# Altium schematic symbol library TPS65023.SchLib: 1 symbol
Pins are listed as number, name and electrical type; pins without a type are passive.

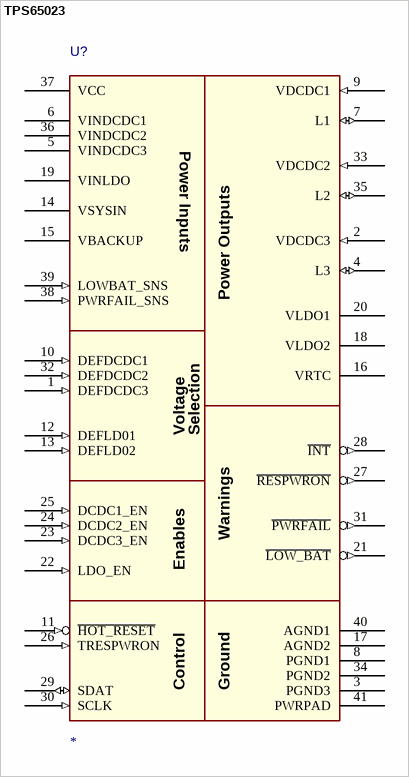
[diagram p0: symbol TPS65023]

## TPS65023
designator U?
pins: 1 DEFDCDC3 (in), 2 VDCDC3 (in), 3 PGND3 (power), 4 L3 (io), 5 VINDCDC3 (power), 6 VINDCDC1 (power), 7 L1 (io), 8 PGND1 (power), 9 VDCDC1 (in), 10 DEFDCDC1 (in), 11 ~{HOT_RESET} (in), 12 DEFLD01 (in), 13 DEFLD02 (in), 14 VSYSIN (power), 15 VBACKUP (power), 16 VRTC (power), 17 AGND2 (power), 18 VLDO2 (power), 19 VINLDO (power), 20 VLDO1 (power), 21 ~{LOW_BAT} (out), 22 LDO_EN (in), 23 DCDC3_EN (in), 24 DCDC2_EN (in), 25 DCDC1_EN (in), 26 TRESPWRON (in), 27 ~{RESPWRON} (out), 28 ~{INT} (out), 29 SDAT (io), 30 SCLK (in), 31 ~{PWRFAIL} (out), 32 DEFDCDC2 (in), 33 VDCDC2 (in), 34 PGND2 (power), 35 L2 (io), 36 VINDCDC2 (power), 37 VCC (power), 38 PWRFAIL_SNS (in), 39 LOWBAT_SNS (in), 40 AGND1 (power), 41 PWRPAD (power)
text: Power Inputs; Power Outputs; Voltage; Selection; Warnings; Enables; Control; Ground